# Altium footprint library L1008-1.0mm.PcbLib: 1 footprints
Each footprint in its own frame and in the unit in brackets; x right, y up, seen from the top. Pads: shape width x height; smd on the part's side, far side on the other; paste and mask are expansions set on the pad; w line width, h text height; cw(c..) or ccw(c..) is an arc to the next point about the centre after c.
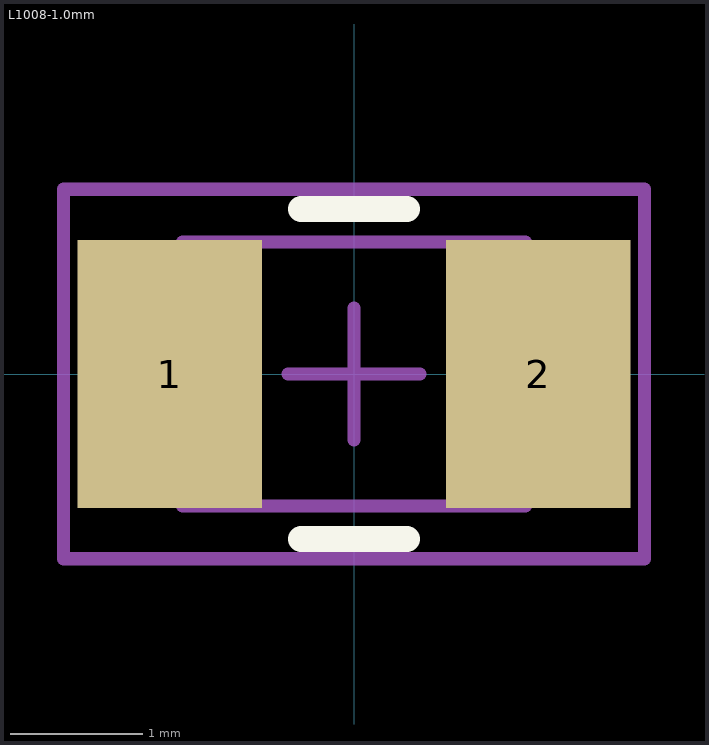
[diagram p0: the footprint, top view; thin cyan lines are the x and y axes]

## L1008-1.0mm [mm]
height 1
pads (2):
  rect 1.4x2.03 smd: 1(-1.395,0) 2(1.395,0)
Top Overlay:
  lines w0.2: -0.4,-1.25 0.4,-1.25 ; -0.4,1.25 0.4,1.25
Mechanical 1:
  text ".Designator" at -1.1,-0.3 h1
Mechanical 13:
  lines w0.1: -1.3,-1 -1.3,1 1.3,1 1.3,-1 -1.3,-1
Mechanical 15:
  lines w0.1: -0.5,0 0.5,0 ; 0,-0.5 0,0.5 ; -2.2,-1.4 -2.2,1.4 2.2,1.4 2.2,-1.4 -2.2,-1.4
3D body: height 1, standoff 0, extent -1.25,-1 1.25,1